# Altium integrated library Actel Fusion.IntLib: 336 symbols (part 19 of 73)
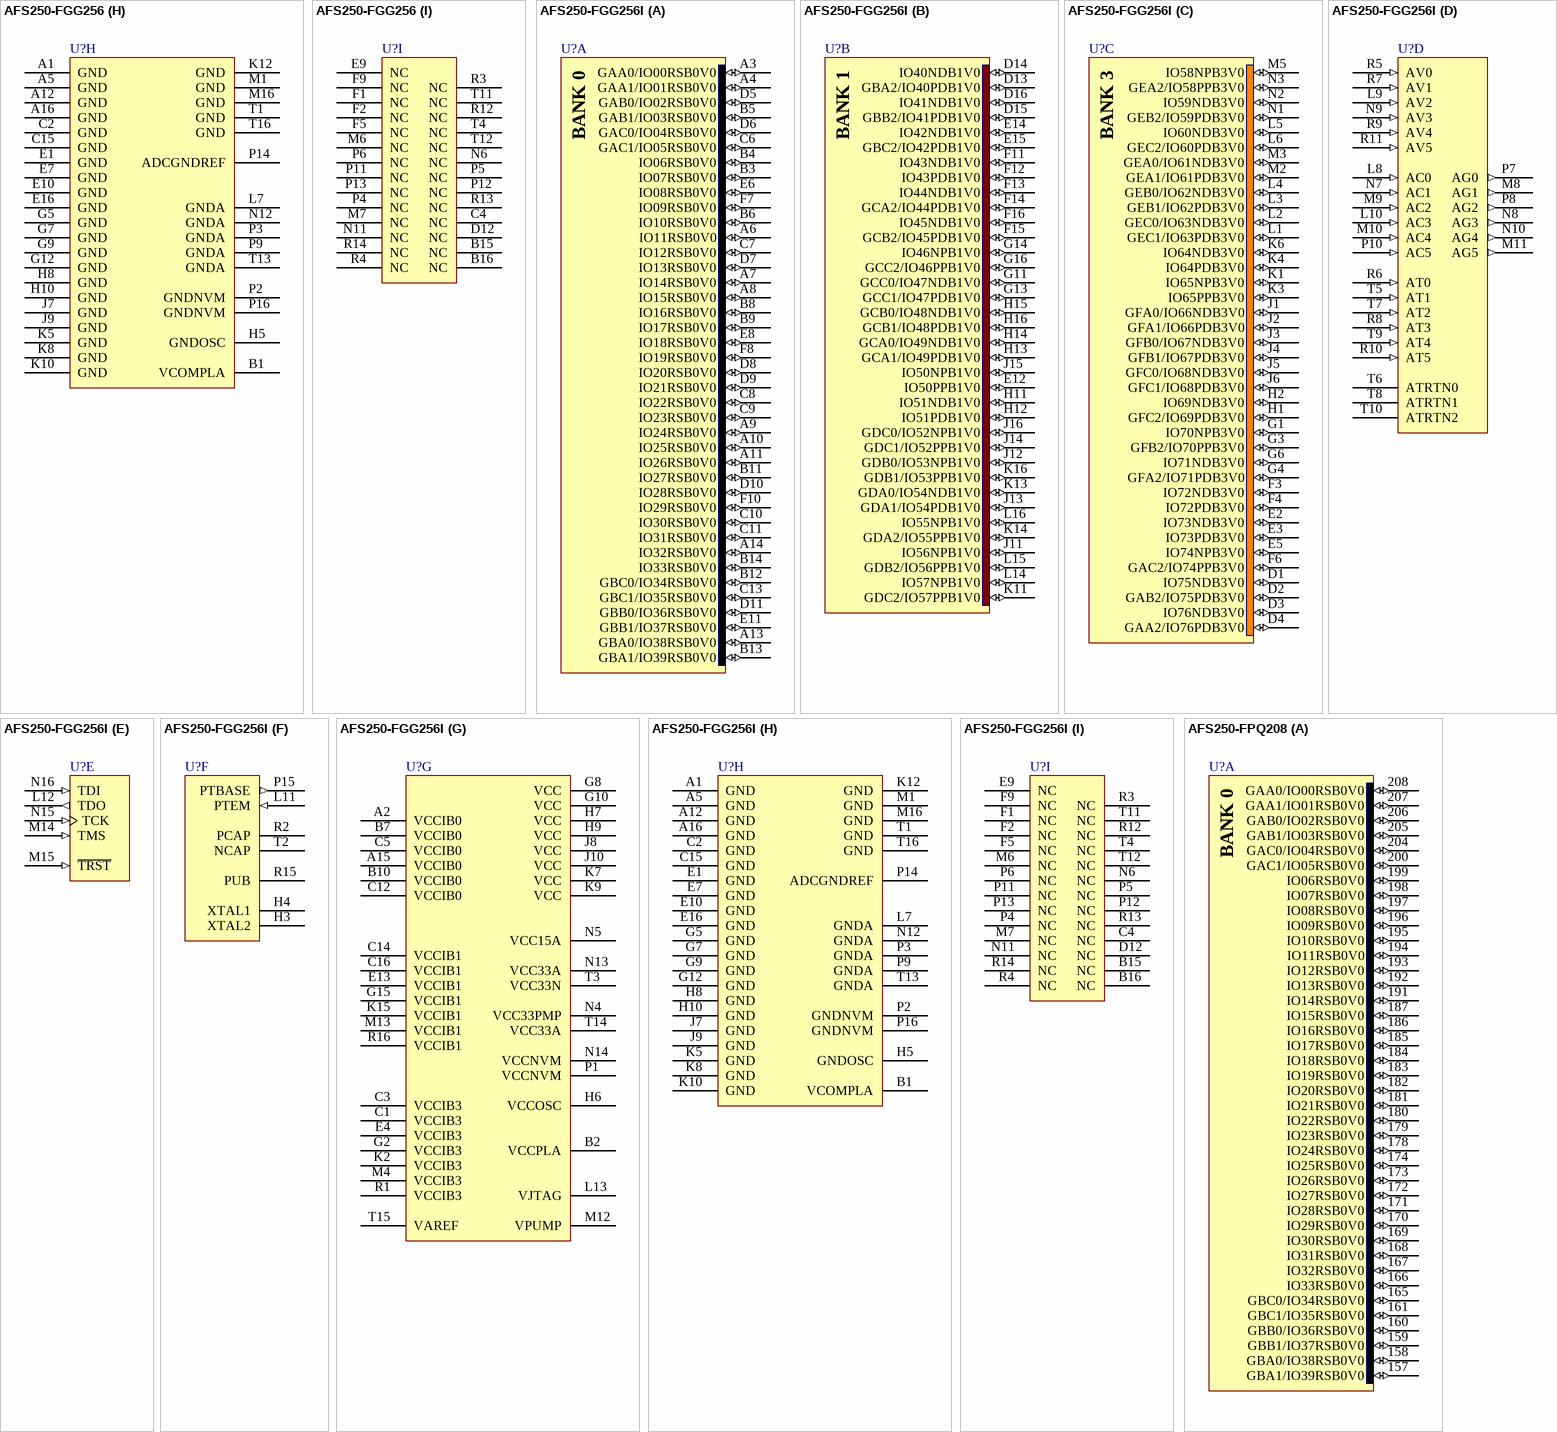
[diagram p302: symbols AFS250-FGG256 to AFS250-FPQ208]

## AFS250-FGG256
designator U?
3.3V Fusion Mixed Signal Flash FPGA, 250,000 System Gates, 256-Pin FBGA, Std. Speed Grade, Commercial Grade, Pb-Free; Published: 30-Jun-2006; LatestRevisionDate: 11-Dec-2009; LatestRevisionNote: Updated to datasheet version 2.0 Jul-2009.; DatasheetVersion: v2.0, Jul-2008; PackageVersion: ver11.2, Nov-2009; PackageReference: FG256; Publisher: Altium Limited; PackageDescription: 256-Ball Fine Pitch Plastic Ball Grid Array 1.00 mm Pitch (FG256); Code_JEDEC: MO-192-DAF-1; ComponentLink1Description: Fusion Datasheet; ComponentLink1URL: http://www.actel.com/documents/Fusion_DS.pdf; ComponentLink2Description: Package Mechanical Drawings; ComponentLink2URL: http://www.actel.com/documents/PckgMechDrwngs.pdf; ComponentLink3Description: Fusion Documents; ComponentLink3URL: http://www.actel.com/products/fusion/docs.aspx; ComponentLink4Description: Actel.com Home; ComponentLink4URL: http://www.actel.com/
footprint FG256 (BGA, 256-Leads, Body 17x17mm, Pitch 1mm)
3D model AFS250-FG256 (256-Ball Fine Pitch Plastic Ball Grid Array 1.00 mm Pitch (FG256))
signal-integrity model AFS250_FG256 (Fusion)
part A pins: A3 GAA0/IO00RSB0V0 (io), A4 GAA1/IO01RSB0V0 (io), A6 IO11RSB0V0 (io), A7 IO14RSB0V0 (io), A8 IO15RSB0V0 (io), A9 IO24RSB0V0 (io), A10 IO25RSB0V0 (io), A11 IO26RSB0V0 (io), A13 GBA0/IO38RSB0V0 (io), A14 IO32RSB0V0 (io), B3 IO07RSB0V0 (io), B4 IO06RSB0V0 (io), B5 GAB1/IO03RSB0V0 (io), B6 IO10RSB0V0 (io), B8 IO16RSB0V0 (io), B9 IO17RSB0V0 (io), B11 IO27RSB0V0 (io), B12 GBC0/IO34RSB0V0 (io), B13 GBA1/IO39RSB0V0 (io), B14 IO33RSB0V0 (io), C6 GAC1/IO05RSB0V0 (io), C7 IO12RSB0V0 (io), C8 IO22RSB0V0 (io), C9 IO23RSB0V0 (io), C10 IO30RSB0V0 (io), C11 IO31RSB0V0 (io), C13 GBC1/IO35RSB0V0 (io), D5 GAB0/IO02RSB0V0 (io), D6 GAC0/IO04RSB0V0 (io), D7 IO13RSB0V0 (io), D8 IO20RSB0V0 (io), D9 IO21RSB0V0 (io), D10 IO28RSB0V0 (io), D11 GBB0/IO36RSB0V0 (io), E6 IO08RSB0V0 (io), E8 IO18RSB0V0 (io), E11 GBB1/IO37RSB0V0 (io), F7 IO09RSB0V0 (io), F8 IO19RSB0V0 (io), F10 IO29RSB0V0 (io)
part B pins: D13 GBA2/IO40PDB1V0 (io), D14 IO40NDB1V0 (io), D15 GBB2/IO41PDB1V0 (io), D16 IO41NDB1V0 (io), E12 IO50PPB1V0 (io), E14 IO42NDB1V0 (io), E15 GBC2/IO42PDB1V0 (io), F11 IO43NDB1V0 (io), F12 IO43PDB1V0 (io), F13 IO44NDB1V0 (io), F14 GCA2/IO44PDB1V0 (io), F15 GCB2/IO45PDB1V0 (io), F16 IO45NDB1V0 (io), G11 GCC0/IO47NDB1V0 (io), G13 GCC1/IO47PDB1V0 (io), G14 IO46NPB1V0 (io), G16 GCC2/IO46PPB1V0 (io), H11 IO51NDB1V0 (io), H12 IO51PDB1V0 (io), H13 GCA1/IO49PDB1V0 (io), H14 GCA0/IO49NDB1V0 (io), H15 GCB0/IO48NDB1V0 (io), H16 GCB1/IO48PDB1V0 (io), J11 IO56NPB1V0 (io), J12 GDB0/IO53NPB1V0 (io), J13 GDA1/IO54PDB1V0 (io), J14 GDC1/IO52PPB1V0 (io), J15 IO50NPB1V0 (io), J16 GDC0/IO52NPB1V0 (io), K11 GDC2/IO57PPB1V0 (io), K13 GDA0/IO54NDB1V0 (io), K14 GDA2/IO55PPB1V0 (io), K16 GDB1/IO53PPB1V0 (io), L14 IO57NPB1V0 (io), L15 GDB2/IO56PPB1V0 (io), L16 IO55NPB1V0 (io)
part C pins: D1 IO75NDB3V0 (io), D2 GAB2/IO75PDB3V0 (io), D3 IO76NDB3V0 (io), D4 GAA2/IO76PDB3V0 (io), E2 IO73NDB3V0 (io), E3 IO73PDB3V0 (io), E5 IO74NPB3V0 (io), F3 IO72NDB3V0 (io), F4 IO72PDB3V0 (io), F6 GAC2/IO74PPB3V0 (io), G1 IO70NPB3V0 (io), G3 GFB2/IO70PPB3V0 (io), G4 GFA2/IO71PDB3V0 (io), G6 IO71NDB3V0 (io), H1 GFC2/IO69PDB3V0 (io), H2 IO69NDB3V0 (io), J1 GFA0/IO66NDB3V0 (io), J2 GFA1/IO66PDB3V0 (io), J3 GFB0/IO67NDB3V0 (io), J4 GFB1/IO67PDB3V0 (io), J5 GFC0/IO68NDB3V0 (io), J6 GFC1/IO68PDB3V0 (io), K1 IO65NPB3V0 (io), K3 IO65PPB3V0 (io), K4 IO64PDB3V0 (io), K6 IO64NDB3V0 (io), L1 GEC1/IO63PDB3V0 (io), L2 GEC0/IO63NDB3V0 (io), L3 GEB1/IO62PDB3V0 (io), L4 GEB0/IO62NDB3V0 (io), L5 IO60NDB3V0 (io), L6 GEC2/IO60PDB3V0 (io), M2 GEA1/IO61PDB3V0 (io), M3 GEA0/IO61NDB3V0 (io), M5 IO58NPB3V0 (io), N1 GEB2/IO59PDB3V0 (io), N2 IO59NDB3V0 (io), N3 GEA2/IO58PPB3V0 (io)
part D pins: L8 AC0 (in) "Analog current pad 0.", L9 AV2 (in) "Analog voltage pad 2.", L10 AC3 (in) "Analog current pad 3.", M8 AG1 (out) "Analog gate driver pad 1.", M9 AC2 (in) "Analog current pad 2.", M10 AC4 (in) "Analog current pad 4.", M11 AG5 (out) "Analog gate driver pad 5.", N7 AC1 (in) "Analog current pad 1.", N8 AG3 (out) "Analog gate driver pad 3.", N9 AV3 (in) "Analog voltage pad 3.", N10 AG4 (out) "Analog gate driver pad 4.", P7 AG0 (out) "Analog gate driver pad 0.", P8 AG2 (out) "Analog gate driver pad 2.", P10 AC5 (in) "Analog current pad 5.", R5 AV0 (in) "Analog voltage pad 0.", R6 AT0 (in) "Analog temperature pad 0.", R7 AV1 (in) "Analog voltage pad 1.", R8 AT3 (in) "Analog temperature pad 3.", R9 AV4 (in) "Analog voltage pad 4.", R10 AT5 (in) "Analog temperature pad 5.", R11 AV5 (in) "Analog voltage pad 5.", T5 AT1 (in) "Analog temperature pad 1.", T6 ATRTN0 "Temperature monitor return 0.", T7 AT2 (in) "Analog temperature pad 2.", T8 ATRTN1 "Temperature monitor return 1.", T9 AT4 (in) "Analog temperature pad 4.", T10 ATRTN2 "Temperature monitor return 2."
part E pins: L12 TDO (out), M14 TMS (in), M15 ~{TRST} (in), N15 TCK (in), N16 TDI (in)
part F pins: H3 XTAL2 "Input to crystal oscillator - If using external RC network or clock input, XTAL1 should be used and XTAL2 left unconnected.", H4 XTAL1 "Input to crystal oscillator - If using external RC network or clock input, XTAL1 should be used and XTAL2 left unconnected.", L11 PTEM (in) "PASS TRANSISTOR EMITTER - The feedback input of the voltage regulator.", P15 PTBASE (out) "PASS TRANSISTOR BASE - The control signal of the voltage regulator.", R2 PCAP "POSITIVE CAPACITOR - where the positive terminal of the charge pump capacitor is connected.", R15 PUB "Power up bar - for the external momentary switch which turns on the 1.5V regulator.", T2 NCAP "NEGATIVE CAPACITOR - where the negative terminal of the charge pump capacitor is connected."
part G pins: A2 VCCIB0 (power), A15 VCCIB0 (power), B2 VCCPLA (power), B7 VCCIB0 (power), B10 VCCIB0 (power), C1 VCCIB3 (power), C3 VCCIB3 (power) "Quiet supply voltage to the input buffers of bank 3.", C5 VCCIB0 (power), C12 VCCIB0 (power), C14 VCCIB1 (power) "Quiet supply voltage to the input buffers of bank 1.", C16 VCCIB1 (power), E4 VCCIB3 (power), E13 VCCIB1 (power), G2 VCCIB3 (power), G8 VCC (power), G10 VCC (power), G15 VCCIB1 (power), H6 VCCOSC (power), H7 VCC (power), H9 VCC (power), J8 VCC (power), J10 VCC (power), K2 VCCIB3 (power), K7 VCC (power), K9 VCC (power), K15 VCCIB1 (power), L13 VJTAG (power), M4 VCCIB3 (power), M12 VPUMP (power), M13 VCCIB1 (power), N4 VCC33PMP (power) "3.3V clean analog power supply input for use by the analog charge pump.", N5 VCC15A (power), N13 VCC33A (power), N14 VCCNVM (power) "1.5V power supply used by the Fusion device's Flash memory block module(s).", P1 VCCNVM (power) "1.5V power supply used by the Fusion device's Flash memory block module(s).", R1 VCCIB3 (power), R16 VCCIB1 (power), T3 VCC33N (power) "-3.3V output from the voltage converter. A 2.2µF capacitor must be connected from this pin to ground.", T14 VCC33A (power) "Analog power pin for the analog power supply low pass filter. An external 1µF capacitor should be connected between this pin and ground.", T15 VAREF (power) "Analog reference voltage to be used by analog to digital converter."
part H pins: A1 GND (power), A5 GND (power), A12 GND (power), A16 GND (power), B1 VCOMPLA (power), C2 GND (power), C15 GND (power), E1 GND (power), E7 GND (power), E10 GND (power), E16 GND (power), G5 GND (power), G7 GND (power), G9 GND (power), G12 GND (power), H5 GNDOSC (power) "Oscillator ground.", H8 GND (power), H10 GND (power), J7 GND (power), J9 GND (power), K5 GND (power), K8 GND (power), K10 GND (power), K12 GND (power), L7 GNDA (power), M1 GND (power), M16 GND (power), N12 GNDA (power), P2 GNDNVM (power) "Flash memory ground.", P3 GNDA (power), P9 GNDA (power), P14 ADCGNDREF (power) "Analog ground reference used by the ADC.", P16 GNDNVM (power) "Flash memory ground.", T1 GND (power), T13 GNDA (power), T16 GND (power)
part I pins: B15 NC, B16 NC, C4 NC, D12 NC, E9 NC, F1 NC, F2 NC, F5 NC, F9 NC, M6 NC, M7 NC, N6 NC, N11 NC, P4 NC, P5 NC, P6 NC, P11 NC, P12 NC, P13 NC, R3 NC, R4 NC, R12 NC, R13 NC, R14 NC, T4 NC, T11 NC, T12 NC
part A text: BANK 0
part B text: BANK 1
part C text: BANK 3

## AFS250-FGG256I
designator U?
3.3V Fusion Mixed Signal Flash FPGA, 250,000 System Gates, 256-Pin FBGA, Std. Speed Grade, Industrial Grade, Pb-Free; Published: 30-Jun-2006; LatestRevisionDate: 11-Dec-2009; LatestRevisionNote: Updated to datasheet version 2.0 Jul-2009.; DatasheetVersion: v2.0, Jul-2008; PackageVersion: ver11.2, Nov-2009; PackageReference: FG256; Publisher: Altium Limited; PackageDescription: 256-Ball Fine Pitch Plastic Ball Grid Array 1.00 mm Pitch (FG256); Code_JEDEC: MO-192-DAF-1; ComponentLink1Description: Fusion Datasheet; ComponentLink1URL: http://www.actel.com/documents/Fusion_DS.pdf; ComponentLink2Description: Package Mechanical Drawings; ComponentLink2URL: http://www.actel.com/documents/PckgMechDrwngs.pdf; ComponentLink3Description: Fusion Documents; ComponentLink3URL: http://www.actel.com/products/fusion/docs.aspx; ComponentLink4Description: Actel.com Home; ComponentLink4URL: http://www.actel.com/
footprint FG256 (BGA, 256-Leads, Body 17x17mm, Pitch 1mm)
3D model AFS250-FG256 (256-Ball Fine Pitch Plastic Ball Grid Array 1.00 mm Pitch (FG256))
signal-integrity model AFS250_FG256 (Fusion)
part A pins: A3 GAA0/IO00RSB0V0 (io), A4 GAA1/IO01RSB0V0 (io), A6 IO11RSB0V0 (io), A7 IO14RSB0V0 (io), A8 IO15RSB0V0 (io), A9 IO24RSB0V0 (io), A10 IO25RSB0V0 (io), A11 IO26RSB0V0 (io), A13 GBA0/IO38RSB0V0 (io), A14 IO32RSB0V0 (io), B3 IO07RSB0V0 (io), B4 IO06RSB0V0 (io), B5 GAB1/IO03RSB0V0 (io), B6 IO10RSB0V0 (io), B8 IO16RSB0V0 (io), B9 IO17RSB0V0 (io), B11 IO27RSB0V0 (io), B12 GBC0/IO34RSB0V0 (io), B13 GBA1/IO39RSB0V0 (io), B14 IO33RSB0V0 (io), C6 GAC1/IO05RSB0V0 (io), C7 IO12RSB0V0 (io), C8 IO22RSB0V0 (io), C9 IO23RSB0V0 (io), C10 IO30RSB0V0 (io), C11 IO31RSB0V0 (io), C13 GBC1/IO35RSB0V0 (io), D5 GAB0/IO02RSB0V0 (io), D6 GAC0/IO04RSB0V0 (io), D7 IO13RSB0V0 (io), D8 IO20RSB0V0 (io), D9 IO21RSB0V0 (io), D10 IO28RSB0V0 (io), D11 GBB0/IO36RSB0V0 (io), E6 IO08RSB0V0 (io), E8 IO18RSB0V0 (io), E11 GBB1/IO37RSB0V0 (io), F7 IO09RSB0V0 (io), F8 IO19RSB0V0 (io), F10 IO29RSB0V0 (io)
part B pins: D13 GBA2/IO40PDB1V0 (io), D14 IO40NDB1V0 (io), D15 GBB2/IO41PDB1V0 (io), D16 IO41NDB1V0 (io), E12 IO50PPB1V0 (io), E14 IO42NDB1V0 (io), E15 GBC2/IO42PDB1V0 (io), F11 IO43NDB1V0 (io), F12 IO43PDB1V0 (io), F13 IO44NDB1V0 (io), F14 GCA2/IO44PDB1V0 (io), F15 GCB2/IO45PDB1V0 (io), F16 IO45NDB1V0 (io), G11 GCC0/IO47NDB1V0 (io), G13 GCC1/IO47PDB1V0 (io), G14 IO46NPB1V0 (io), G16 GCC2/IO46PPB1V0 (io), H11 IO51NDB1V0 (io), H12 IO51PDB1V0 (io), H13 GCA1/IO49PDB1V0 (io), H14 GCA0/IO49NDB1V0 (io), H15 GCB0/IO48NDB1V0 (io), H16 GCB1/IO48PDB1V0 (io), J11 IO56NPB1V0 (io), J12 GDB0/IO53NPB1V0 (io), J13 GDA1/IO54PDB1V0 (io), J14 GDC1/IO52PPB1V0 (io), J15 IO50NPB1V0 (io), J16 GDC0/IO52NPB1V0 (io), K11 GDC2/IO57PPB1V0 (io), K13 GDA0/IO54NDB1V0 (io), K14 GDA2/IO55PPB1V0 (io), K16 GDB1/IO53PPB1V0 (io), L14 IO57NPB1V0 (io), L15 GDB2/IO56PPB1V0 (io), L16 IO55NPB1V0 (io)
part C pins: D1 IO75NDB3V0 (io), D2 GAB2/IO75PDB3V0 (io), D3 IO76NDB3V0 (io), D4 GAA2/IO76PDB3V0 (io), E2 IO73NDB3V0 (io), E3 IO73PDB3V0 (io), E5 IO74NPB3V0 (io), F3 IO72NDB3V0 (io), F4 IO72PDB3V0 (io), F6 GAC2/IO74PPB3V0 (io), G1 IO70NPB3V0 (io), G3 GFB2/IO70PPB3V0 (io), G4 GFA2/IO71PDB3V0 (io), G6 IO71NDB3V0 (io), H1 GFC2/IO69PDB3V0 (io), H2 IO69NDB3V0 (io), J1 GFA0/IO66NDB3V0 (io), J2 GFA1/IO66PDB3V0 (io), J3 GFB0/IO67NDB3V0 (io), J4 GFB1/IO67PDB3V0 (io), J5 GFC0/IO68NDB3V0 (io), J6 GFC1/IO68PDB3V0 (io), K1 IO65NPB3V0 (io), K3 IO65PPB3V0 (io), K4 IO64PDB3V0 (io), K6 IO64NDB3V0 (io), L1 GEC1/IO63PDB3V0 (io), L2 GEC0/IO63NDB3V0 (io), L3 GEB1/IO62PDB3V0 (io), L4 GEB0/IO62NDB3V0 (io), L5 IO60NDB3V0 (io), L6 GEC2/IO60PDB3V0 (io), M2 GEA1/IO61PDB3V0 (io), M3 GEA0/IO61NDB3V0 (io), M5 IO58NPB3V0 (io), N1 GEB2/IO59PDB3V0 (io), N2 IO59NDB3V0 (io), N3 GEA2/IO58PPB3V0 (io)
part D pins: L8 AC0 (in) "Analog current pad 0.", L9 AV2 (in) "Analog voltage pad 2.", L10 AC3 (in) "Analog current pad 3.", M8 AG1 (out) "Analog gate driver pad 1.", M9 AC2 (in) "Analog current pad 2.", M10 AC4 (in) "Analog current pad 4.", M11 AG5 (out) "Analog gate driver pad 5.", N7 AC1 (in) "Analog current pad 1.", N8 AG3 (out) "Analog gate driver pad 3.", N9 AV3 (in) "Analog voltage pad 3.", N10 AG4 (out) "Analog gate driver pad 4.", P7 AG0 (out) "Analog gate driver pad 0.", P8 AG2 (out) "Analog gate driver pad 2.", P10 AC5 (in) "Analog current pad 5.", R5 AV0 (in) "Analog voltage pad 0.", R6 AT0 (in) "Analog temperature pad 0.", R7 AV1 (in) "Analog voltage pad 1.", R8 AT3 (in) "Analog temperature pad 3.", R9 AV4 (in) "Analog voltage pad 4.", R10 AT5 (in) "Analog temperature pad 5.", R11 AV5 (in) "Analog voltage pad 5.", T5 AT1 (in) "Analog temperature pad 1.", T6 ATRTN0 "Temperature monitor return 0.", T7 AT2 (in) "Analog temperature pad 2.", T8 ATRTN1 "Temperature monitor return 1.", T9 AT4 (in) "Analog temperature pad 4.", T10 ATRTN2 "Temperature monitor return 2."
part E pins: L12 TDO (out), M14 TMS (in), M15 ~{TRST} (in), N15 TCK (in), N16 TDI (in)
part F pins: H3 XTAL2 "Input to crystal oscillator - If using external RC network or clock input, XTAL1 should be used and XTAL2 left unconnected.", H4 XTAL1 "Input to crystal oscillator - If using external RC network or clock input, XTAL1 should be used and XTAL2 left unconnected.", L11 PTEM (in) "PASS TRANSISTOR EMITTER - The feedback input of the voltage regulator.", P15 PTBASE (out) "PASS TRANSISTOR BASE - The control signal of the voltage regulator.", R2 PCAP "POSITIVE CAPACITOR - where the positive terminal of the charge pump capacitor is connected.", R15 PUB "Power up bar - for the external momentary switch which turns on the 1.5V regulator.", T2 NCAP "NEGATIVE CAPACITOR - where the negative terminal of the charge pump capacitor is connected."
part G pins: A2 VCCIB0 (power), A15 VCCIB0 (power), B2 VCCPLA (power), B7 VCCIB0 (power), B10 VCCIB0 (power), C1 VCCIB3 (power), C3 VCCIB3 (power) "Quiet supply voltage to the input buffers of bank 3.", C5 VCCIB0 (power), C12 VCCIB0 (power), C14 VCCIB1 (power) "Quiet supply voltage to the input buffers of bank 1.", C16 VCCIB1 (power), E4 VCCIB3 (power), E13 VCCIB1 (power), G2 VCCIB3 (power), G8 VCC (power), G10 VCC (power), G15 VCCIB1 (power), H6 VCCOSC (power), H7 VCC (power), H9 VCC (power), J8 VCC (power), J10 VCC (power), K2 VCCIB3 (power), K7 VCC (power), K9 VCC (power), K15 VCCIB1 (power), L13 VJTAG (power), M4 VCCIB3 (power), M12 VPUMP (power), M13 VCCIB1 (power), N4 VCC33PMP (power) "3.3V clean analog power supply input for use by the analog charge pump.", N5 VCC15A (power), N13 VCC33A (power), N14 VCCNVM (power) "1.5V power supply used by the Fusion device's Flash memory block module(s).", P1 VCCNVM (power) "1.5V power supply used by the Fusion device's Flash memory block module(s).", R1 VCCIB3 (power), R16 VCCIB1 (power), T3 VCC33N (power) "-3.3V output from the voltage converter. A 2.2µF capacitor must be connected from this pin to ground.", T14 VCC33A (power) "Analog power pin for the analog power supply low pass filter. An external 1µF capacitor should be connected between this pin and ground.", T15 VAREF (power) "Analog reference voltage to be used by analog to digital converter."
part H pins: A1 GND (power), A5 GND (power), A12 GND (power), A16 GND (power), B1 VCOMPLA (power), C2 GND (power), C15 GND (power), E1 GND (power), E7 GND (power), E10 GND (power), E16 GND (power), G5 GND (power), G7 GND (power), G9 GND (power), G12 GND (power), H5 GNDOSC (power) "Oscillator ground.", H8 GND (power), H10 GND (power), J7 GND (power), J9 GND (power), K5 GND (power), K8 GND (power), K10 GND (power), K12 GND (power), L7 GNDA (power), M1 GND (power), M16 GND (power), N12 GNDA (power), P2 GNDNVM (power) "Flash memory ground.", P3 GNDA (power), P9 GNDA (power), P14 ADCGNDREF (power) "Analog ground reference used by the ADC.", P16 GNDNVM (power) "Flash memory ground.", T1 GND (power), T13 GNDA (power), T16 GND (power)
part I pins: B15 NC, B16 NC, C4 NC, D12 NC, E9 NC, F1 NC, F2 NC, F5 NC, F9 NC, M6 NC, M7 NC, N6 NC, N11 NC, P4 NC, P5 NC, P6 NC, P11 NC, P12 NC, P13 NC, R3 NC, R4 NC, R12 NC, R13 NC, R14 NC, T4 NC, T11 NC, T12 NC
part A text: BANK 0
part B text: BANK 1
part C text: BANK 3

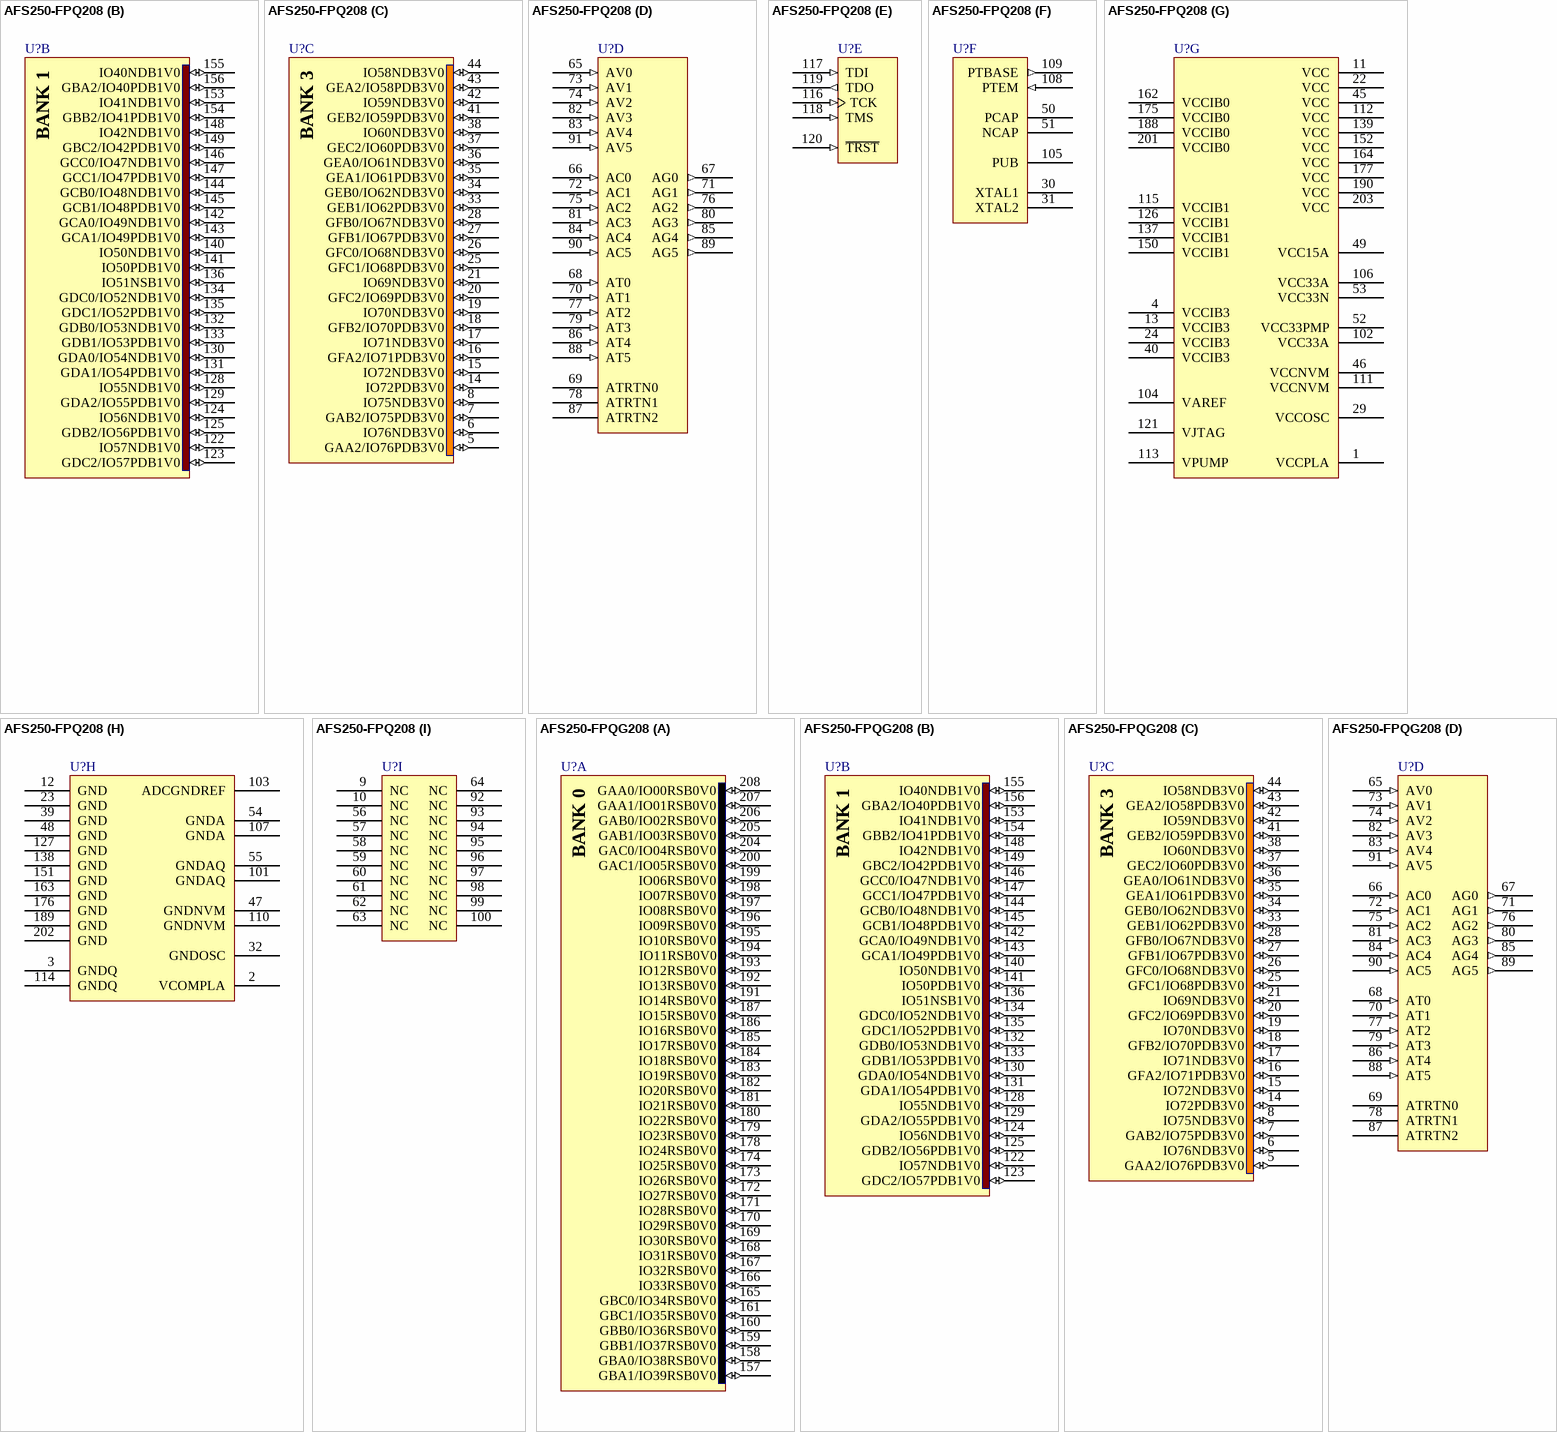
[diagram p45: symbols AFS250-FPQ208 to AFS250-FPQG208]

## AFS250-FPQ208
designator U?
3.3V Fusion Mixed Signal Flash FPGA, 250,000 System Gates, 208-Pin PQFP, F Speed Grade, Commercial Grade; ComponentAvailability: F speed grade removed in ver2.0, Jul-2009 datasheet.; Published: 30-Jun-2006; LatestRevisionDate: 14-Dec-2007; LatestRevisionNote: Pin 102 renamed VCC33A.; DatasheetVersion: v1.7, Oct-2008; PackageVersion: ver11.2, Nov-2009; PackageReference: PQ208; Publisher: Altium Limited; PackageDescription: 208-Pin Plastic Quad Flat Pack (PQ208); Code_JEDEC: MS-029-FA-1; ComponentLink1Description: Fusion Datasheet; ComponentLink1URL: http://www.actel.com/documents/Fusion_DS.pdf; ComponentLink2Description: Package Mechanical Drawings; ComponentLink2URL: http://www.actel.com/documents/PckgMechDrwngs.pdf; ComponentLink3Description: Fusion Documents; ComponentLink3URL: http://www.actel.com/products/fusion/docs.aspx; ComponentLink4Description: Actel.com Home; ComponentLink4URL: http://www.actel.com/
footprint PQ208_N (Shrink QFP, 208-Leads, Body 28x28mm, Pitch 0.5mm, IPC Medium Density)
footprint PQ208_L (Shrink QFP, 208-Leads, Body 28x28mm, Pitch 0.5mm, IPC High Density)
footprint PQ208_M (Shrink QFP, 208-Leads, Body 28x28mm, Pitch 0.5mm, IPC Low Density)
3D model AFS250-PQ208 (208-Pin Plastic Quad Flat Pack (PQ208))
signal-integrity model AFS250_PQ208 (Fusion)
part A pins: 157 GBA1/IO39RSB0V0 (io), 158 GBA0/IO38RSB0V0 (io), 159 GBB1/IO37RSB0V0 (io), 160 GBB0/IO36RSB0V0 (io), 161 GBC1/IO35RSB0V0 (io), 165 GBC0/IO34RSB0V0 (io), 166 IO33RSB0V0 (io), 167 IO32RSB0V0 (io), 168 IO31RSB0V0 (io), 169 IO30RSB0V0 (io), 170 IO29RSB0V0 (io), 171 IO28RSB0V0 (io), 172 IO27RSB0V0 (io), 173 IO26RSB0V0 (io), 174 IO25RSB0V0 (io), 178 IO24RSB0V0 (io), 179 IO23RSB0V0 (io), 180 IO22RSB0V0 (io), 181 IO21RSB0V0 (io), 182 IO20RSB0V0 (io), 183 IO19RSB0V0 (io), 184 IO18RSB0V0 (io), 185 IO17RSB0V0 (io), 186 IO16RSB0V0 (io), 187 IO15RSB0V0 (io), 191 IO14RSB0V0 (io), 192 IO13RSB0V0 (io), 193 IO12RSB0V0 (io), 194 IO11RSB0V0 (io), 195 IO10RSB0V0 (io), 196 IO09RSB0V0 (io), 197 IO08RSB0V0 (io), 198 IO07RSB0V0 (io), 199 IO06RSB0V0 (io), 200 GAC1/IO05RSB0V0 (io), 204 GAC0/IO04RSB0V0 (io), 205 GAB1/IO03RSB0V0 (io), 206 GAB0/IO02RSB0V0 (io), 207 GAA1/IO01RSB0V0 (io), 208 GAA0/IO00RSB0V0 (io)
part B pins: 122 IO57NDB1V0 (io), 123 GDC2/IO57PDB1V0 (io), 124 IO56NDB1V0 (io), 125 GDB2/IO56PDB1V0 (io), 128 IO55NDB1V0 (io), 129 GDA2/IO55PDB1V0 (io), 130 GDA0/IO54NDB1V0 (io), 131 GDA1/IO54PDB1V0 (io), 132 GDB0/IO53NDB1V0 (io), 133 GDB1/IO53PDB1V0 (io), 134 GDC0/IO52NDB1V0 (io), 135 GDC1/IO52PDB1V0 (io), 136 IO51NSB1V0 (io), 140 IO50NDB1V0 (io), 141 IO50PDB1V0 (io), 142 GCA0/IO49NDB1V0 (io), 143 GCA1/IO49PDB1V0 (io), 144 GCB0/IO48NDB1V0 (io), 145 GCB1/IO48PDB1V0 (io), 146 GCC0/IO47NDB1V0 (io), 147 GCC1/IO47PDB1V0 (io), 148 IO42NDB1V0 (io), 149 GBC2/IO42PDB1V0 (io), 153 IO41NDB1V0 (io), 154 GBB2/IO41PDB1V0 (io), 155 IO40NDB1V0 (io), 156 GBA2/IO40PDB1V0 (io)
part C pins: 5 GAA2/IO76PDB3V0 (io), 6 IO76NDB3V0 (io), 7 GAB2/IO75PDB3V0 (io), 8 IO75NDB3V0 (io), 14 IO72PDB3V0 (io), 15 IO72NDB3V0 (io), 16 GFA2/IO71PDB3V0 (io), 17 IO71NDB3V0 (io), 18 GFB2/IO70PDB3V0 (io), 19 IO70NDB3V0 (io), 20 GFC2/IO69PDB3V0 (io), 21 IO69NDB3V0 (io), 25 GFC1/IO68PDB3V0 (io), 26 GFC0/IO68NDB3V0 (io), 27 GFB1/IO67PDB3V0 (io), 28 GFB0/IO67NDB3V0 (io), 33 GEB1/IO62PDB3V0 (io), 34 GEB0/IO62NDB3V0 (io), 35 GEA1/IO61PDB3V0 (io), 36 GEA0/IO61NDB3V0 (io), 37 GEC2/IO60PDB3V0 (io), 38 IO60NDB3V0 (io), 41 GEB2/IO59PDB3V0 (io), 42 IO59NDB3V0 (io), 43 GEA2/IO58PDB3V0 (io), 44 IO58NDB3V0 (io)
part D pins: 65 AV0 (in) "Analog voltage pad 0.", 66 AC0 (in) "Analog current pad 0.", 67 AG0 (out) "Analog gate driver pad 0.", 68 AT0 (in) "Analog temperature pad 0.", 69 ATRTN0 "Temperature monitor return 0.", 70 AT1 (in) "Analog temperature pad 1.", 71 AG1 (out) "Analog gate driver pad 1.", 72 AC1 (in) "Analog current pad 1.", 73 AV1 (in) "Analog voltage pad 1.", 74 AV2 (in) "Analog voltage pad 2.", 75 AC2 (in) "Analog current pad 2.", 76 AG2 (out) "Analog gate driver pad 2.", 77 AT2 (in) "Analog temperature pad 2.", 78 ATRTN1 "Temperature monitor return 1.", 79 AT3 (in) "Analog temperature pad 3.", 80 AG3 (out) "Analog gate driver pad 3.", 81 AC3 (in) "Analog current pad 3.", 82 AV3 (in) "Analog voltage pad 3.", 83 AV4 (in) "Analog voltage pad 4.", 84 AC4 (in) "Analog current pad 4.", 85 AG4 (out) "Analog gate driver pad 4.", 86 AT4 (in) "Analog temperature pad 4.", 87 ATRTN2 "Temperature monitor return 2.", 88 AT5 (in) "Analog temperature pad 5.", 89 AG5 (out) "Analog gate driver pad 5.", 90 AC5 (in) "Analog current pad 5.", 91 AV5 (in) "Analog voltage pad 5."
part E pins: 116 TCK (in), 117 TDI (in), 118 TMS (in), 119 TDO (out), 120 ~{TRST} (in)
part F pins: 30 XTAL1 "Input to crystal oscillator - If using external RC network or clock input, XTAL1 should be used and XTAL2 left unconnected.", 31 XTAL2 "Input to crystal oscillator - If using external RC network or clock input, XTAL1 should be used and XTAL2 left unconnected.", 50 PCAP "POSITIVE CAPACITOR - where the positive terminal of the charge pump capacitor is connected.", 51 NCAP "NEGATIVE CAPACITOR - where the negative terminal of the charge pump capacitor is connected.", 105 PUB "Power up bar - for the external momentary switch which turns on the 1.5V regulator.", 108 PTEM (in) "PASS TRANSISTOR EMITTER - The feedback input of the voltage regulator.", 109 PTBASE (out) "PASS TRANSISTOR BASE - The control signal of the voltage regulator."
part G pins: 1 VCCPLA (power), 4 VCCIB3 (power) "Quiet supply voltage to the input buffers of bank 3.", 11 VCC (power), 13 VCCIB3 (power), 22 VCC (power), 24 VCCIB3 (power), 29 VCCOSC (power), 40 VCCIB3 (power), 45 VCC (power), 46 VCCNVM (power) "1.5V power supply used by the Fusion device's Flash memory block module(s).", 49 VCC15A (power), 52 VCC33PMP (power) "3.3V clean analog power supply input for use by the analog charge pump.", 53 VCC33N (power) "-3.3V output from the voltage converter. A 2.2µF capacitor must be connected from this pin to ground.", 102 VCC33A (power) "Analog power pin for the analog power supply low pass filter. An external 1µF capacitor should be connected between this pin and ground.", 104 VAREF (power) "Analog reference voltage to be used by analog to digital converter.", 106 VCC33A (power), 111 VCCNVM (power) "1.5V power supply used by the Fusion device's Flash memory block module(s).", 112 VCC (power), 113 VPUMP (power), 115 VCCIB1 (power) "Quiet supply voltage to the input buffers of bank 1.", 121 VJTAG (power), 126 VCCIB1 (power), 137 VCCIB1 (power), 139 VCC (power), 150 VCCIB1 (power), 152 VCC (power), 162 VCCIB0 (power), 164 VCC (power), 175 VCCIB0 (power), 177 VCC (power), 188 VCCIB0 (power), 190 VCC (power), 201 VCCIB0 (power), 203 VCC (power)
part H pins: 2 VCOMPLA (power), 3 GNDQ (power), 12 GND (power), 23 GND (power), 32 GNDOSC (power) "Oscillator ground.", 39 GND (power), 47 GNDNVM (power) "Flash memory ground.", 48 GND (power), 54 GNDA (power), 55 GNDAQ (power), 101 GNDAQ (power), 103 ADCGNDREF (power) "Analog ground reference used by the ADC.", 107 GNDA (power), 110 GNDNVM (power) "Flash memory ground.", 114 GNDQ (power), 127 GND (power), 138 GND (power), 151 GND (power), 163 GND (power), 176 GND (power), 189 GND (power), 202 GND (power)
part I pins: 9 NC, 10 NC, 56 NC, 57 NC, 58 NC, 59 NC, 60 NC, 61 NC, 62 NC, 63 NC, 64 NC, 92 NC, 93 NC, 94 NC, 95 NC, 96 NC, 97 NC, 98 NC, 99 NC, 100 NC
part A text: BANK 0
part B text: BANK 1
part C text: BANK 3

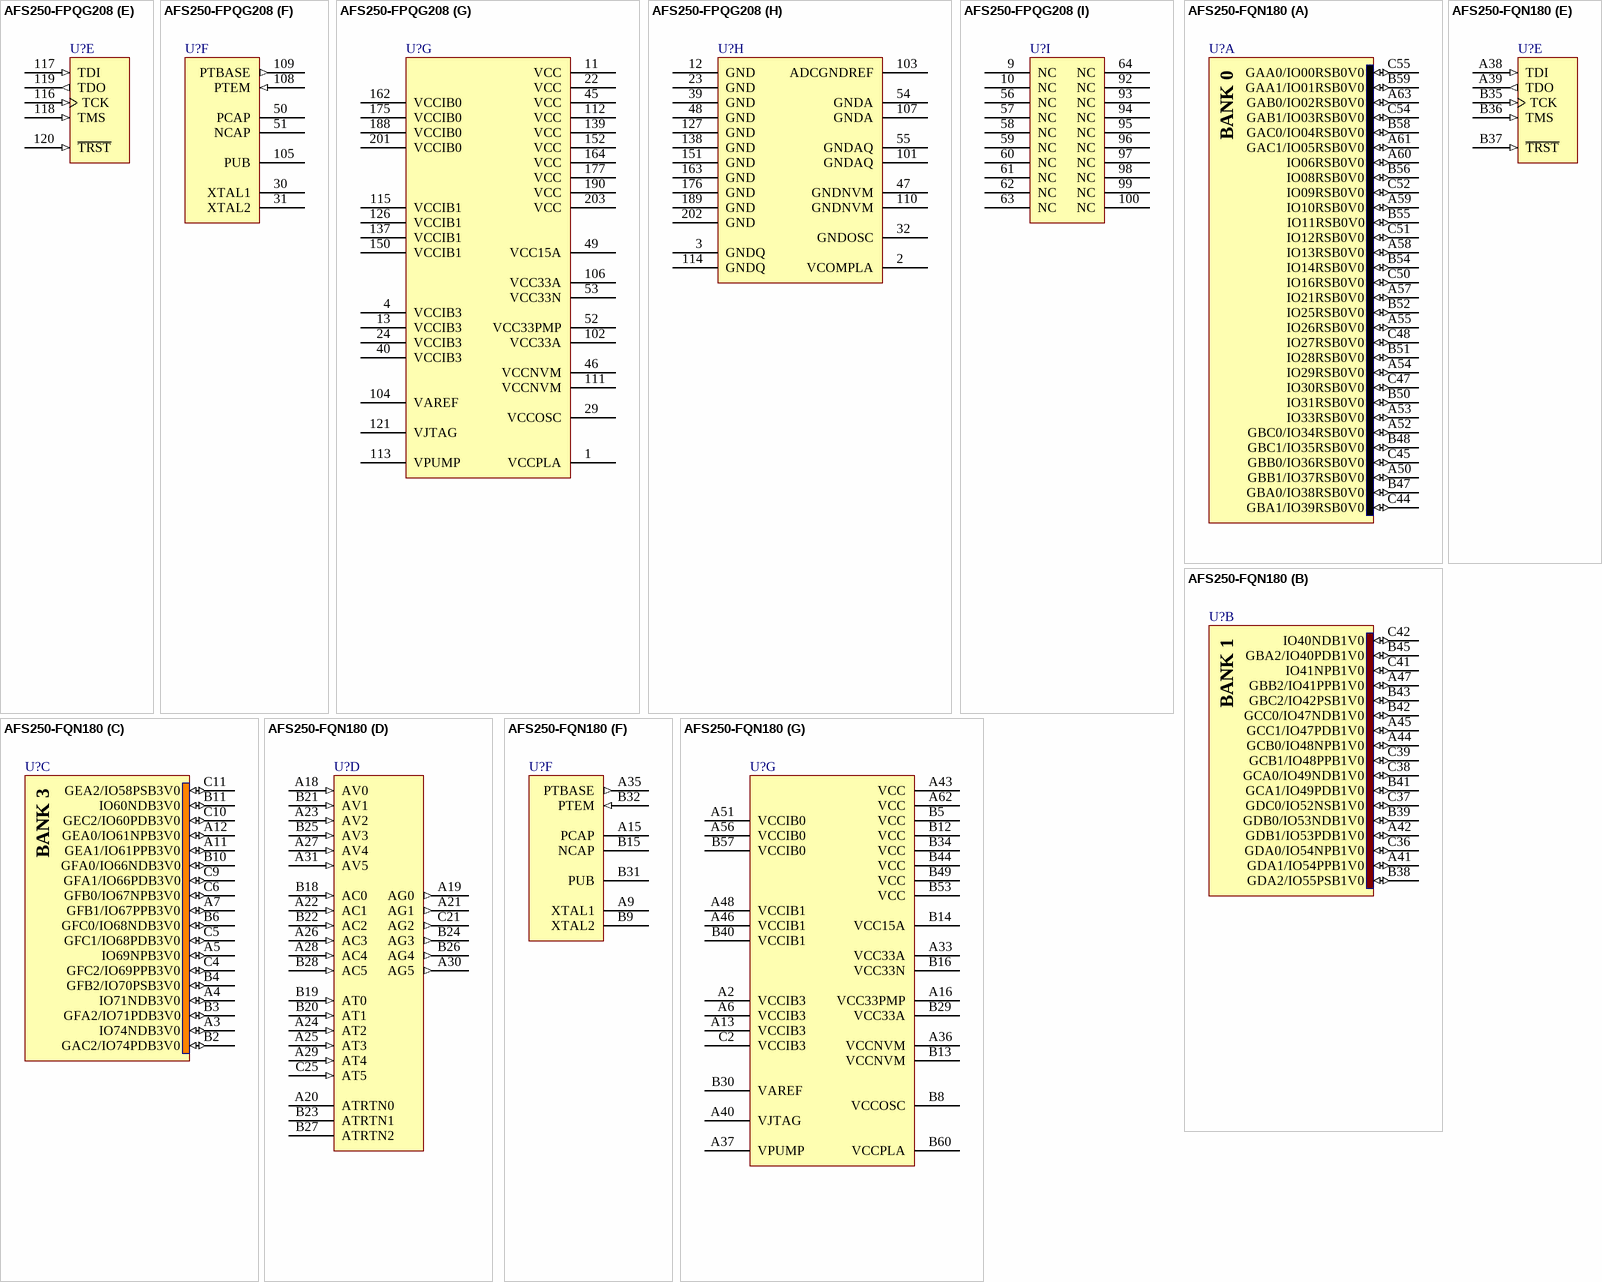
[diagram p46: symbols AFS250-FPQG208 to AFS250-FQN180]

## AFS250-FPQG208
designator U?
3.3V Fusion Mixed Signal Flash FPGA, 250,000 System Gates, 208-Pin PQFP, F Speed Grade, Commercial Grade, Pb-Free; ComponentAvailability: F speed grade removed in ver2.0, Jul-2009 datasheet.; Published: 30-Jun-2006; LatestRevisionDate: 14-Dec-2007; LatestRevisionNote: Pin 102 renamed VCC33A.; DatasheetVersion: v1.7, Oct-2008; PackageVersion: ver11.2, Nov-2009; PackageReference: PQ208; Publisher: Altium Limited; PackageDescription: 208-Pin Plastic Quad Flat Pack (PQ208); Code_JEDEC: MS-029-FA-1; ComponentLink1Description: Fusion Datasheet; ComponentLink1URL: http://www.actel.com/documents/Fusion_DS.pdf; ComponentLink2Description: Package Mechanical Drawings; ComponentLink2URL: http://www.actel.com/documents/PckgMechDrwngs.pdf; ComponentLink3Description: Fusion Documents; ComponentLink3URL: http://www.actel.com/products/fusion/docs.aspx; ComponentLink4Description: Actel.com Home; ComponentLink4URL: http://www.actel.com/
footprint PQ208_N (Shrink QFP, 208-Leads, Body 28x28mm, Pitch 0.5mm, IPC Medium Density)
footprint PQ208_L (Shrink QFP, 208-Leads, Body 28x28mm, Pitch 0.5mm, IPC High Density)
footprint PQ208_M (Shrink QFP, 208-Leads, Body 28x28mm, Pitch 0.5mm, IPC Low Density)
3D model AFS250-PQ208 (208-Pin Plastic Quad Flat Pack (PQ208))
signal-integrity model AFS250_PQ208 (Fusion)
part A pins: 157 GBA1/IO39RSB0V0 (io), 158 GBA0/IO38RSB0V0 (io), 159 GBB1/IO37RSB0V0 (io), 160 GBB0/IO36RSB0V0 (io), 161 GBC1/IO35RSB0V0 (io), 165 GBC0/IO34RSB0V0 (io), 166 IO33RSB0V0 (io), 167 IO32RSB0V0 (io), 168 IO31RSB0V0 (io), 169 IO30RSB0V0 (io), 170 IO29RSB0V0 (io), 171 IO28RSB0V0 (io), 172 IO27RSB0V0 (io), 173 IO26RSB0V0 (io), 174 IO25RSB0V0 (io), 178 IO24RSB0V0 (io), 179 IO23RSB0V0 (io), 180 IO22RSB0V0 (io), 181 IO21RSB0V0 (io), 182 IO20RSB0V0 (io), 183 IO19RSB0V0 (io), 184 IO18RSB0V0 (io), 185 IO17RSB0V0 (io), 186 IO16RSB0V0 (io), 187 IO15RSB0V0 (io), 191 IO14RSB0V0 (io), 192 IO13RSB0V0 (io), 193 IO12RSB0V0 (io), 194 IO11RSB0V0 (io), 195 IO10RSB0V0 (io), 196 IO09RSB0V0 (io), 197 IO08RSB0V0 (io), 198 IO07RSB0V0 (io), 199 IO06RSB0V0 (io), 200 GAC1/IO05RSB0V0 (io), 204 GAC0/IO04RSB0V0 (io), 205 GAB1/IO03RSB0V0 (io), 206 GAB0/IO02RSB0V0 (io), 207 GAA1/IO01RSB0V0 (io), 208 GAA0/IO00RSB0V0 (io)
part B pins: 122 IO57NDB1V0 (io), 123 GDC2/IO57PDB1V0 (io), 124 IO56NDB1V0 (io), 125 GDB2/IO56PDB1V0 (io), 128 IO55NDB1V0 (io), 129 GDA2/IO55PDB1V0 (io), 130 GDA0/IO54NDB1V0 (io), 131 GDA1/IO54PDB1V0 (io), 132 GDB0/IO53NDB1V0 (io), 133 GDB1/IO53PDB1V0 (io), 134 GDC0/IO52NDB1V0 (io), 135 GDC1/IO52PDB1V0 (io), 136 IO51NSB1V0 (io), 140 IO50NDB1V0 (io), 141 IO50PDB1V0 (io), 142 GCA0/IO49NDB1V0 (io), 143 GCA1/IO49PDB1V0 (io), 144 GCB0/IO48NDB1V0 (io), 145 GCB1/IO48PDB1V0 (io), 146 GCC0/IO47NDB1V0 (io), 147 GCC1/IO47PDB1V0 (io), 148 IO42NDB1V0 (io), 149 GBC2/IO42PDB1V0 (io), 153 IO41NDB1V0 (io), 154 GBB2/IO41PDB1V0 (io), 155 IO40NDB1V0 (io), 156 GBA2/IO40PDB1V0 (io)
part C pins: 5 GAA2/IO76PDB3V0 (io), 6 IO76NDB3V0 (io), 7 GAB2/IO75PDB3V0 (io), 8 IO75NDB3V0 (io), 14 IO72PDB3V0 (io), 15 IO72NDB3V0 (io), 16 GFA2/IO71PDB3V0 (io), 17 IO71NDB3V0 (io), 18 GFB2/IO70PDB3V0 (io), 19 IO70NDB3V0 (io), 20 GFC2/IO69PDB3V0 (io), 21 IO69NDB3V0 (io), 25 GFC1/IO68PDB3V0 (io), 26 GFC0/IO68NDB3V0 (io), 27 GFB1/IO67PDB3V0 (io), 28 GFB0/IO67NDB3V0 (io), 33 GEB1/IO62PDB3V0 (io), 34 GEB0/IO62NDB3V0 (io), 35 GEA1/IO61PDB3V0 (io), 36 GEA0/IO61NDB3V0 (io), 37 GEC2/IO60PDB3V0 (io), 38 IO60NDB3V0 (io), 41 GEB2/IO59PDB3V0 (io), 42 IO59NDB3V0 (io), 43 GEA2/IO58PDB3V0 (io), 44 IO58NDB3V0 (io)
part D pins: 65 AV0 (in) "Analog voltage pad 0.", 66 AC0 (in) "Analog current pad 0.", 67 AG0 (out) "Analog gate driver pad 0.", 68 AT0 (in) "Analog temperature pad 0.", 69 ATRTN0 "Temperature monitor return 0.", 70 AT1 (in) "Analog temperature pad 1.", 71 AG1 (out) "Analog gate driver pad 1.", 72 AC1 (in) "Analog current pad 1.", 73 AV1 (in) "Analog voltage pad 1.", 74 AV2 (in) "Analog voltage pad 2.", 75 AC2 (in) "Analog current pad 2.", 76 AG2 (out) "Analog gate driver pad 2.", 77 AT2 (in) "Analog temperature pad 2.", 78 ATRTN1 "Temperature monitor return 1.", 79 AT3 (in) "Analog temperature pad 3.", 80 AG3 (out) "Analog gate driver pad 3.", 81 AC3 (in) "Analog current pad 3.", 82 AV3 (in) "Analog voltage pad 3.", 83 AV4 (in) "Analog voltage pad 4.", 84 AC4 (in) "Analog current pad 4.", 85 AG4 (out) "Analog gate driver pad 4.", 86 AT4 (in) "Analog temperature pad 4.", 87 ATRTN2 "Temperature monitor return 2.", 88 AT5 (in) "Analog temperature pad 5.", 89 AG5 (out) "Analog gate driver pad 5.", 90 AC5 (in) "Analog current pad 5.", 91 AV5 (in) "Analog voltage pad 5."
part E pins: 116 TCK (in), 117 TDI (in), 118 TMS (in), 119 TDO (out), 120 ~{TRST} (in)
part F pins: 30 XTAL1 "Input to crystal oscillator - If using external RC network or clock input, XTAL1 should be used and XTAL2 left unconnected.", 31 XTAL2 "Input to crystal oscillator - If using external RC network or clock input, XTAL1 should be used and XTAL2 left unconnected.", 50 PCAP "POSITIVE CAPACITOR - where the positive terminal of the charge pump capacitor is connected.", 51 NCAP "NEGATIVE CAPACITOR - where the negative terminal of the charge pump capacitor is connected.", 105 PUB "Power up bar - for the external momentary switch which turns on the 1.5V regulator.", 108 PTEM (in) "PASS TRANSISTOR EMITTER - The feedback input of the voltage regulator.", 109 PTBASE (out) "PASS TRANSISTOR BASE - The control signal of the voltage regulator."
part G pins: 1 VCCPLA (power), 4 VCCIB3 (power) "Quiet supply voltage to the input buffers of bank 3.", 11 VCC (power), 13 VCCIB3 (power), 22 VCC (power), 24 VCCIB3 (power), 29 VCCOSC (power), 40 VCCIB3 (power), 45 VCC (power), 46 VCCNVM (power) "1.5V power supply used by the Fusion device's Flash memory block module(s).", 49 VCC15A (power), 52 VCC33PMP (power) "3.3V clean analog power supply input for use by the analog charge pump.", 53 VCC33N (power) "-3.3V output from the voltage converter. A 2.2µF capacitor must be connected from this pin to ground.", 102 VCC33A (power) "Analog power pin for the analog power supply low pass filter. An external 1µF capacitor should be connected between this pin and ground.", 104 VAREF (power) "Analog reference voltage to be used by analog to digital converter.", 106 VCC33A (power), 111 VCCNVM (power) "1.5V power supply used by the Fusion device's Flash memory block module(s).", 112 VCC (power), 113 VPUMP (power), 115 VCCIB1 (power) "Quiet supply voltage to the input buffers of bank 1.", 121 VJTAG (power), 126 VCCIB1 (power), 137 VCCIB1 (power), 139 VCC (power), 150 VCCIB1 (power), 152 VCC (power), 162 VCCIB0 (power), 164 VCC (power), 175 VCCIB0 (power), 177 VCC (power), 188 VCCIB0 (power), 190 VCC (power), 201 VCCIB0 (power), 203 VCC (power)
part H pins: 2 VCOMPLA (power), 3 GNDQ (power), 12 GND (power), 23 GND (power), 32 GNDOSC (power) "Oscillator ground.", 39 GND (power), 47 GNDNVM (power) "Flash memory ground.", 48 GND (power), 54 GNDA (power), 55 GNDAQ (power), 101 GNDAQ (power), 103 ADCGNDREF (power) "Analog ground reference used by the ADC.", 107 GNDA (power), 110 GNDNVM (power) "Flash memory ground.", 114 GNDQ (power), 127 GND (power), 138 GND (power), 151 GND (power), 163 GND (power), 176 GND (power), 189 GND (power), 202 GND (power)
part I pins: 9 NC, 10 NC, 56 NC, 57 NC, 58 NC, 59 NC, 60 NC, 61 NC, 62 NC, 63 NC, 64 NC, 92 NC, 93 NC, 94 NC, 95 NC, 96 NC, 97 NC, 98 NC, 99 NC, 100 NC
part A text: BANK 0
part B text: BANK 1
part C text: BANK 3

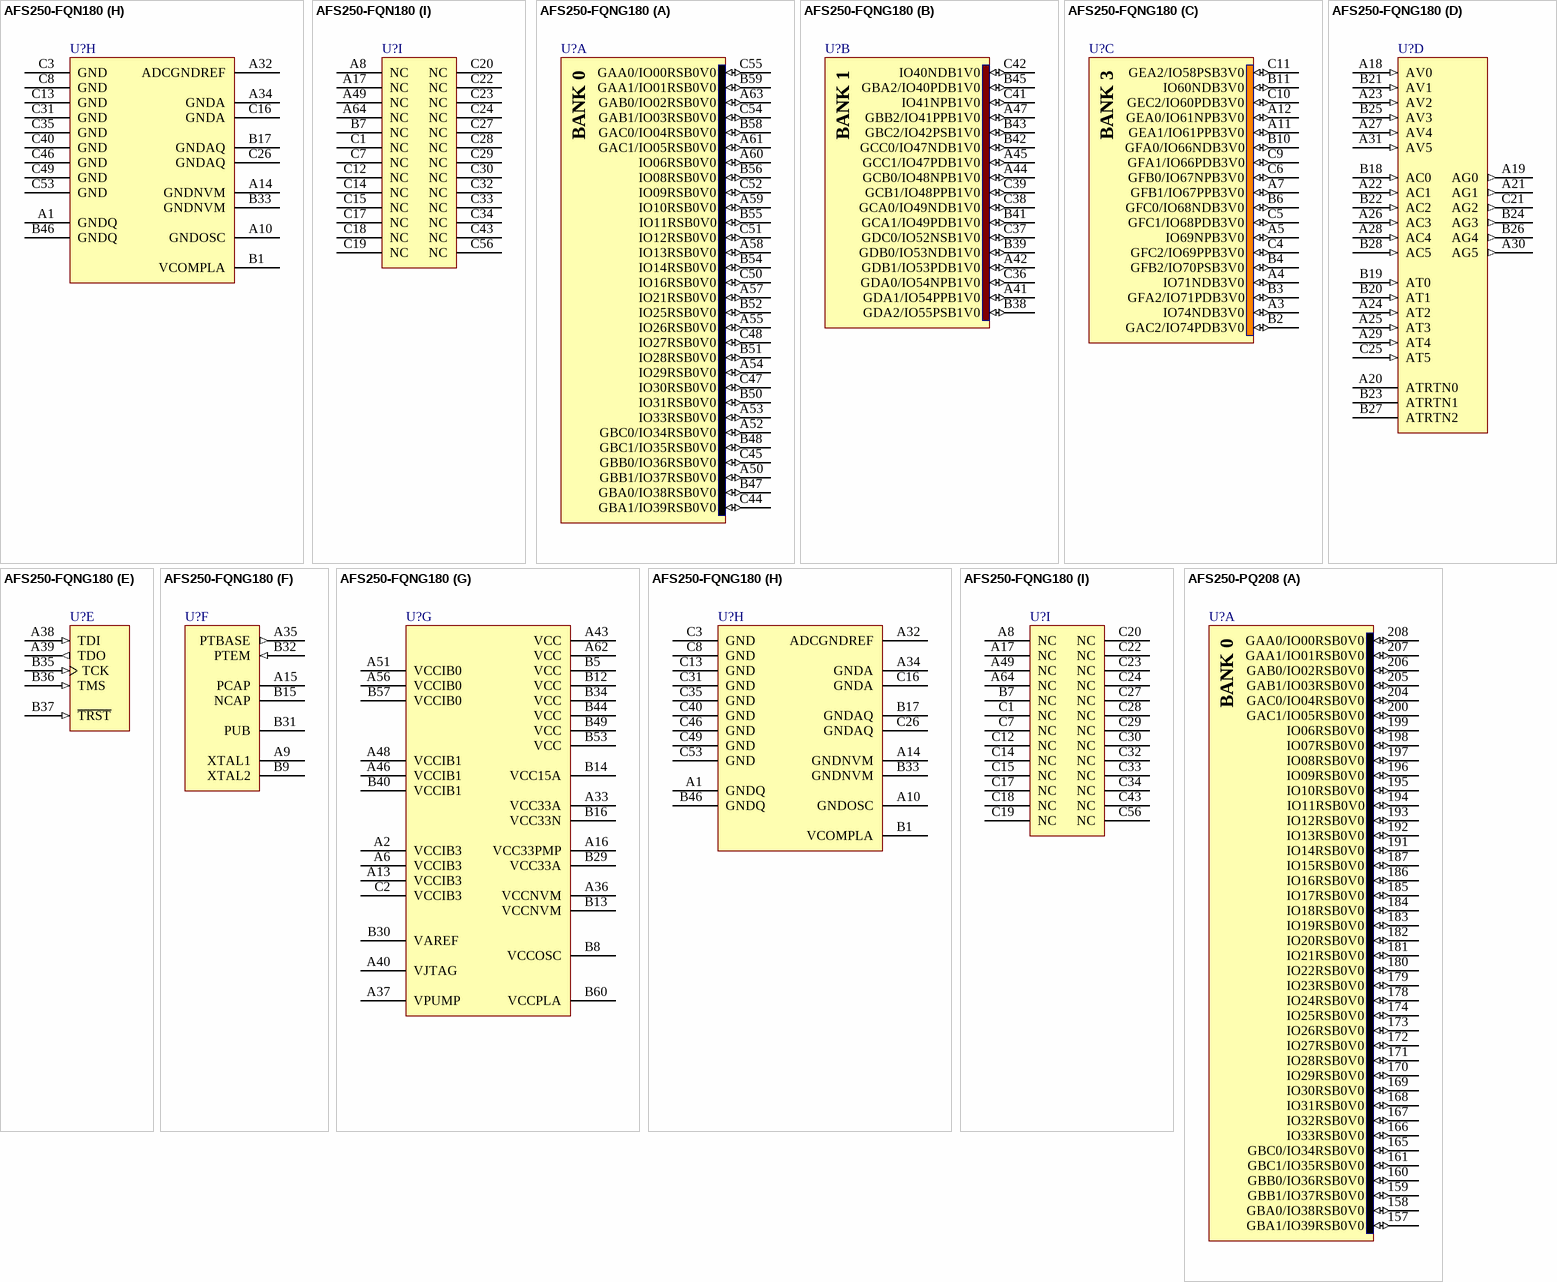
[diagram p47: symbols AFS250-FQN180 to AFS250-PQ208]

## AFS250-FQN180
designator U?
3.3V Fusion Mixed Signal Flash FPGA, 250,000 System Gates, 180-Pin Quad Flat No Lead, F Speed Grade, Commercial Grade; ComponentAvailability: F speed grade removed in ver2.0, Jul-2009 datasheet.; Published: 30-Jun-2006; LatestRevisionDate: 14-Dec-2007; LatestRevisionNote: Pin B29 renamed VCC33A.; DatasheetVersion: v1.7, Oct-2008; PackageVersion: ver11.2, Nov-2009; PackageReference: QN180; Publisher: Altium Limited; PackageDescription: 180-Pin Quad Flat Pack No-Leads (QN180); ComponentLink1Description: Fusion Datasheet; ComponentLink1URL: http://www.actel.com/documents/Fusion_DS.pdf; ComponentLink2Description: Package Mechanical Drawings; ComponentLink2URL: http://www.actel.com/documents/PckgMechDrwngs.pdf; ComponentLink3Description: Fusion Documents; ComponentLink3URL: http://www.actel.com/products/fusion/docs.aspx; ComponentLink4Description: Actel.com Home; ComponentLink4URL: http://www.actel.com/
footprint QN180 (QFN, 180-Leads, Body 10x10mm, Pitch 0.5mm)
3D model AFS250-QN180 (180-Pin Quad Flat Pack No-Leads (QN180))
signal-integrity model AFS250_QN180 (Fusion)
part A pins: A50 GBB1/IO37RSB0V0 (io), A52 GBC0/IO34RSB0V0 (io), A53 IO33RSB0V0 (io), A54 IO29RSB0V0 (io), A55 IO26RSB0V0 (io), A57 IO21RSB0V0 (io), A58 IO13RSB0V0 (io), A59 IO10RSB0V0 (io), A60 IO06RSB0V0 (io), A61 GAC1/IO05RSB0V0 (io), A63 GAB0/IO02RSB0V0 (io), B47 GBA0/IO38RSB0V0 (io), B48 GBC1/IO35RSB0V0 (io), B50 IO31RSB0V0 (io), B51 IO28RSB0V0 (io), B52 IO25RSB0V0 (io), B54 IO14RSB0V0 (io), B55 IO11RSB0V0 (io), B56 IO08RSB0V0 (io), B58 GAC0/IO04RSB0V0 (io), B59 GAA1/IO01RSB0V0 (io), C44 GBA1/IO39RSB0V0 (io), C45 GBB0/IO36RSB0V0 (io), C47 IO30RSB0V0 (io), C48 IO27RSB0V0 (io), C50 IO16RSB0V0 (io), C51 IO12RSB0V0 (io), C52 IO09RSB0V0 (io), C54 GAB1/IO03RSB0V0 (io), C55 GAA0/IO00RSB0V0 (io)
part B pins: A41 GDA1/IO54PPB1V0 (io), A42 GDB1/IO53PDB1V0 (io), A44 GCB0/IO48NPB1V0 (io), A45 GCC1/IO47PDB1V0 (io), A47 GBB2/IO41PPB1V0 (io), B38 GDA2/IO55PSB1V0 (io), B39 GDB0/IO53NDB1V0 (io), B41 GCA1/IO49PDB1V0 (io), B42 GCC0/IO47NDB1V0 (io), B43 GBC2/IO42PSB1V0 (io), B45 GBA2/IO40PDB1V0 (io), C36 GDA0/IO54NPB1V0 (io), C37 GDC0/IO52NSB1V0 (io), C38 GCA0/IO49NDB1V0 (io), C39 GCB1/IO48PPB1V0 (io), C41 IO41NPB1V0 (io), C42 IO40NDB1V0 (io)
part C pins: A3 IO74NDB3V0 (io), A4 IO71NDB3V0 (io), A5 IO69NPB3V0 (io), A7 GFB1/IO67PPB3V0 (io), A11 GEA1/IO61PPB3V0 (io), A12 GEA0/IO61NPB3V0 (io), B2 GAC2/IO74PDB3V0 (io), B3 GFA2/IO71PDB3V0 (io), B4 GFB2/IO70PSB3V0 (io), B6 GFC0/IO68NDB3V0 (io), B10 GFA0/IO66NDB3V0 (io), B11 IO60NDB3V0 (io), C4 GFC2/IO69PPB3V0 (io), C5 GFC1/IO68PDB3V0 (io), C6 GFB0/IO67NPB3V0 (io), C9 GFA1/IO66PDB3V0 (io), C10 GEC2/IO60PDB3V0 (io), C11 GEA2/IO58PSB3V0 (io)
part D pins: A18 AV0 (in) "Analog voltage pad 0.", A19 AG0 (out) "Analog gate driver pad 0.", A20 ATRTN0 "Temperature monitor return 0.", A21 AG1 (out) "Analog gate driver pad 1.", A22 AC1 (in) "Analog current pad 1.", A23 AV2 (in) "Analog voltage pad 2.", A24 AT2 (in) "Analog temperature pad 2.", A25 AT3 (in) "Analog temperature pad 3.", A26 AC3 (in) "Analog current pad 3.", A27 AV4 (in) "Analog voltage pad 4.", A28 AC4 (in) "Analog current pad 4.", A29 AT4 (in) "Analog temperature pad 4.", A30 AG5 (out) "Analog gate driver pad 5.", A31 AV5 (in) "Analog voltage pad 5.", B18 AC0 (in) "Analog current pad 0.", B19 AT0 (in) "Analog temperature pad 0.", B20 AT1 (in) "Analog temperature pad 1.", B21 AV1 (in) "Analog voltage pad 1.", B22 AC2 (in) "Analog current pad 2.", B23 ATRTN1 "Temperature monitor return 1.", B24 AG3 (out) "Analog gate driver pad 3.", B25 AV3 (in) "Analog voltage pad 3.", B26 AG4 (out) "Analog gate driver pad 4.", B27 ATRTN2 "Temperature monitor return 2.", B28 AC5 (in) "Analog current pad 5.", C21 AG2 (out) "Analog gate driver pad 2.", C25 AT5 (in) "Analog temperature pad 5."
part E pins: A38 TDI (in), A39 TDO (out), B35 TCK (in), B36 TMS (in), B37 ~{TRST} (in)
part F pins: A9 XTAL1 "Input to crystal oscillator - If using external RC network or clock input, XTAL1 should be used and XTAL2 left unconnected.", A15 PCAP "POSITIVE CAPACITOR - where the positive terminal of the charge pump capacitor is connected.", A35 PTBASE (out) "PASS TRANSISTOR BASE - The control signal of the voltage regulator.", B9 XTAL2 "Input to crystal oscillator - If using external RC network or clock input, XTAL1 should be used and XTAL2 left unconnected.", B15 NCAP "NEGATIVE CAPACITOR - where the negative terminal of the charge pump capacitor is connected.", B31 PUB "Power up bar - for the external momentary switch which turns on the 1.5V regulator.", B32 PTEM (in) "PASS TRANSISTOR EMITTER - The feedback input of the voltage regulator."
part G pins: A2 VCCIB3 (power) "Quiet supply voltage to the input buffers of bank 3.", A6 VCCIB3 (power), A13 VCCIB3 (power), A16 VCC33PMP (power) "3.3V clean analog power supply input for use by the analog charge pump.", A33 VCC33A (power), A36 VCCNVM (power) "1.5V power supply used by the Fusion device's Flash memory block module(s).", A37 VPUMP (power), A40 VJTAG (power), A43 VCC (power), A46 VCCIB1 (power), A48 VCCIB1 (power) "Quiet supply voltage to the input buffers of bank 1.", A51 VCCIB0 (power), A56 VCCIB0 (power), A62 VCC (power), B5 VCC (power), B8 VCCOSC (power), B12 VCC (power), B13 VCCNVM (power) "1.5V power supply used by the Fusion device's Flash memory block module(s).", B14 VCC15A (power), B16 VCC33N (power) "-3.3V output from the voltage converter. A 2.2µF capacitor must be connected from this pin to ground.", B29 VCC33A (power) "Analog power pin for the analog power supply low pass filter. An external 1µF capacitor should be connected between this pin and ground.", B30 VAREF (power) "Analog reference voltage to be used by analog to digital converter.", B34 VCC (power), B40 VCCIB1 (power), B44 VCC (power), B49 VCC (power), B53 VCC (power), B57 VCCIB0 (power), B60 VCCPLA (power), C2 VCCIB3 (power)
part H pins: A1 GNDQ (power), A10 GNDOSC (power) "Oscillator ground.", A14 GNDNVM (power) "Flash memory ground.", A32 ADCGNDREF (power) "Analog ground reference used by the ADC.", A34 GNDA (power), B1 VCOMPLA (power), B17 GNDAQ (power), B33 GNDNVM (power) "Flash memory ground.", B46 GNDQ (power), C3 GND (power), C8 GND (power), C13 GND (power), C16 GNDA (power), C26 GNDAQ (power), C31 GND (power), C35 GND (power), C40 GND (power), C46 GND (power), C49 GND (power), C53 GND (power)
part I pins: A8 NC, A17 NC, A49 NC, A64 NC, B7 NC, C1 NC, C7 NC, C12 NC, C14 NC, C15 NC, C17 NC, C18 NC, C19 NC, C20 NC, C22 NC, C23 NC, C24 NC, C27 NC, C28 NC, C29 NC, C30 NC, C32 NC, C33 NC, C34 NC, C43 NC, C56 NC
part A text: BANK 0
part B text: BANK 1
part C text: BANK 3

## AFS250-FQNG180
designator U?
3.3V Fusion Mixed Signal Flash FPGA, 250,000 System Gates, 180-Pin Quad Flat No Lead, F Speed Grade, Commercial Grade, Pb-Free; ComponentAvailability: F speed grade removed in ver2.0, Jul-2009 datasheet.; Published: 30-Jun-2006; LatestRevisionDate: 14-Dec-2007; LatestRevisionNote: Pin B29 renamed VCC33A.; DatasheetVersion: v1.7, Oct-2008; PackageVersion: ver11.2, Nov-2009; PackageReference: QN180; Publisher: Altium Limited; PackageDescription: 180-Pin Quad Flat Pack No-Leads (QN180); ComponentLink1Description: Fusion Datasheet; ComponentLink1URL: http://www.actel.com/documents/Fusion_DS.pdf; ComponentLink2Description: Package Mechanical Drawings; ComponentLink2URL: http://www.actel.com/documents/PckgMechDrwngs.pdf; ComponentLink3Description: Fusion Documents; ComponentLink3URL: http://www.actel.com/products/fusion/docs.aspx; ComponentLink4Description: Actel.com Home; ComponentLink4URL: http://www.actel.com/
footprint QN180 (QFN, 180-Leads, Body 10x10mm, Pitch 0.5mm)
3D model AFS250-QN180 (180-Pin Quad Flat Pack No-Leads (QN180))
signal-integrity model AFS250_QN180 (Fusion)
part A pins: A50 GBB1/IO37RSB0V0 (io), A52 GBC0/IO34RSB0V0 (io), A53 IO33RSB0V0 (io), A54 IO29RSB0V0 (io), A55 IO26RSB0V0 (io), A57 IO21RSB0V0 (io), A58 IO13RSB0V0 (io), A59 IO10RSB0V0 (io), A60 IO06RSB0V0 (io), A61 GAC1/IO05RSB0V0 (io), A63 GAB0/IO02RSB0V0 (io), B47 GBA0/IO38RSB0V0 (io), B48 GBC1/IO35RSB0V0 (io), B50 IO31RSB0V0 (io), B51 IO28RSB0V0 (io), B52 IO25RSB0V0 (io), B54 IO14RSB0V0 (io), B55 IO11RSB0V0 (io), B56 IO08RSB0V0 (io), B58 GAC0/IO04RSB0V0 (io), B59 GAA1/IO01RSB0V0 (io), C44 GBA1/IO39RSB0V0 (io), C45 GBB0/IO36RSB0V0 (io), C47 IO30RSB0V0 (io), C48 IO27RSB0V0 (io), C50 IO16RSB0V0 (io), C51 IO12RSB0V0 (io), C52 IO09RSB0V0 (io), C54 GAB1/IO03RSB0V0 (io), C55 GAA0/IO00RSB0V0 (io)
part B pins: A41 GDA1/IO54PPB1V0 (io), A42 GDB1/IO53PDB1V0 (io), A44 GCB0/IO48NPB1V0 (io), A45 GCC1/IO47PDB1V0 (io), A47 GBB2/IO41PPB1V0 (io), B38 GDA2/IO55PSB1V0 (io), B39 GDB0/IO53NDB1V0 (io), B41 GCA1/IO49PDB1V0 (io), B42 GCC0/IO47NDB1V0 (io), B43 GBC2/IO42PSB1V0 (io), B45 GBA2/IO40PDB1V0 (io), C36 GDA0/IO54NPB1V0 (io), C37 GDC0/IO52NSB1V0 (io), C38 GCA0/IO49NDB1V0 (io), C39 GCB1/IO48PPB1V0 (io), C41 IO41NPB1V0 (io), C42 IO40NDB1V0 (io)
part C pins: A3 IO74NDB3V0 (io), A4 IO71NDB3V0 (io), A5 IO69NPB3V0 (io), A7 GFB1/IO67PPB3V0 (io), A11 GEA1/IO61PPB3V0 (io), A12 GEA0/IO61NPB3V0 (io), B2 GAC2/IO74PDB3V0 (io), B3 GFA2/IO71PDB3V0 (io), B4 GFB2/IO70PSB3V0 (io), B6 GFC0/IO68NDB3V0 (io), B10 GFA0/IO66NDB3V0 (io), B11 IO60NDB3V0 (io), C4 GFC2/IO69PPB3V0 (io), C5 GFC1/IO68PDB3V0 (io), C6 GFB0/IO67NPB3V0 (io), C9 GFA1/IO66PDB3V0 (io), C10 GEC2/IO60PDB3V0 (io), C11 GEA2/IO58PSB3V0 (io)
part D pins: A18 AV0 (in) "Analog voltage pad 0.", A19 AG0 (out) "Analog gate driver pad 0.", A20 ATRTN0 "Temperature monitor return 0.", A21 AG1 (out) "Analog gate driver pad 1.", A22 AC1 (in) "Analog current pad 1.", A23 AV2 (in) "Analog voltage pad 2.", A24 AT2 (in) "Analog temperature pad 2.", A25 AT3 (in) "Analog temperature pad 3.", A26 AC3 (in) "Analog current pad 3.", A27 AV4 (in) "Analog voltage pad 4.", A28 AC4 (in) "Analog current pad 4.", A29 AT4 (in) "Analog temperature pad 4.", A30 AG5 (out) "Analog gate driver pad 5.", A31 AV5 (in) "Analog voltage pad 5.", B18 AC0 (in) "Analog current pad 0.", B19 AT0 (in) "Analog temperature pad 0.", B20 AT1 (in) "Analog temperature pad 1.", B21 AV1 (in) "Analog voltage pad 1.", B22 AC2 (in) "Analog current pad 2.", B23 ATRTN1 "Temperature monitor return 1.", B24 AG3 (out) "Analog gate driver pad 3.", B25 AV3 (in) "Analog voltage pad 3.", B26 AG4 (out) "Analog gate driver pad 4.", B27 ATRTN2 "Temperature monitor return 2.", B28 AC5 (in) "Analog current pad 5.", C21 AG2 (out) "Analog gate driver pad 2.", C25 AT5 (in) "Analog temperature pad 5."
part E pins: A38 TDI (in), A39 TDO (out), B35 TCK (in), B36 TMS (in), B37 ~{TRST} (in)
part F pins: A9 XTAL1 "Input to crystal oscillator - If using external RC network or clock input, XTAL1 should be used and XTAL2 left unconnected.", A15 PCAP "POSITIVE CAPACITOR - where the positive terminal of the charge pump capacitor is connected.", A35 PTBASE (out) "PASS TRANSISTOR BASE - The control signal of the voltage regulator.", B9 XTAL2 "Input to crystal oscillator - If using external RC network or clock input, XTAL1 should be used and XTAL2 left unconnected.", B15 NCAP "NEGATIVE CAPACITOR - where the negative terminal of the charge pump capacitor is connected.", B31 PUB "Power up bar - for the external momentary switch which turns on the 1.5V regulator.", B32 PTEM (in) "PASS TRANSISTOR EMITTER - The feedback input of the voltage regulator."
part G pins: A2 VCCIB3 (power) "Quiet supply voltage to the input buffers of bank 3.", A6 VCCIB3 (power), A13 VCCIB3 (power), A16 VCC33PMP (power) "3.3V clean analog power supply input for use by the analog charge pump.", A33 VCC33A (power), A36 VCCNVM (power) "1.5V power supply used by the Fusion device's Flash memory block module(s).", A37 VPUMP (power), A40 VJTAG (power), A43 VCC (power), A46 VCCIB1 (power), A48 VCCIB1 (power) "Quiet supply voltage to the input buffers of bank 1.", A51 VCCIB0 (power), A56 VCCIB0 (power), A62 VCC (power), B5 VCC (power), B8 VCCOSC (power), B12 VCC (power), B13 VCCNVM (power) "1.5V power supply used by the Fusion device's Flash memory block module(s).", B14 VCC15A (power), B16 VCC33N (power) "-3.3V output from the voltage converter. A 2.2µF capacitor must be connected from this pin to ground.", B29 VCC33A (power) "Analog power pin for the analog power supply low pass filter. An external 1µF capacitor should be connected between this pin and ground.", B30 VAREF (power) "Analog reference voltage to be used by analog to digital converter.", B34 VCC (power), B40 VCCIB1 (power), B44 VCC (power), B49 VCC (power), B53 VCC (power), B57 VCCIB0 (power), B60 VCCPLA (power), C2 VCCIB3 (power)
part H pins: A1 GNDQ (power), A10 GNDOSC (power) "Oscillator ground.", A14 GNDNVM (power) "Flash memory ground.", A32 ADCGNDREF (power) "Analog ground reference used by the ADC.", A34 GNDA (power), B1 VCOMPLA (power), B17 GNDAQ (power), B33 GNDNVM (power) "Flash memory ground.", B46 GNDQ (power), C3 GND (power), C8 GND (power), C13 GND (power), C16 GNDA (power), C26 GNDAQ (power), C31 GND (power), C35 GND (power), C40 GND (power), C46 GND (power), C49 GND (power), C53 GND (power)
part I pins: A8 NC, A17 NC, A49 NC, A64 NC, B7 NC, C1 NC, C7 NC, C12 NC, C14 NC, C15 NC, C17 NC, C18 NC, C19 NC, C20 NC, C22 NC, C23 NC, C24 NC, C27 NC, C28 NC, C29 NC, C30 NC, C32 NC, C33 NC, C34 NC, C43 NC, C56 NC
part A text: BANK 0
part B text: BANK 1
part C text: BANK 3

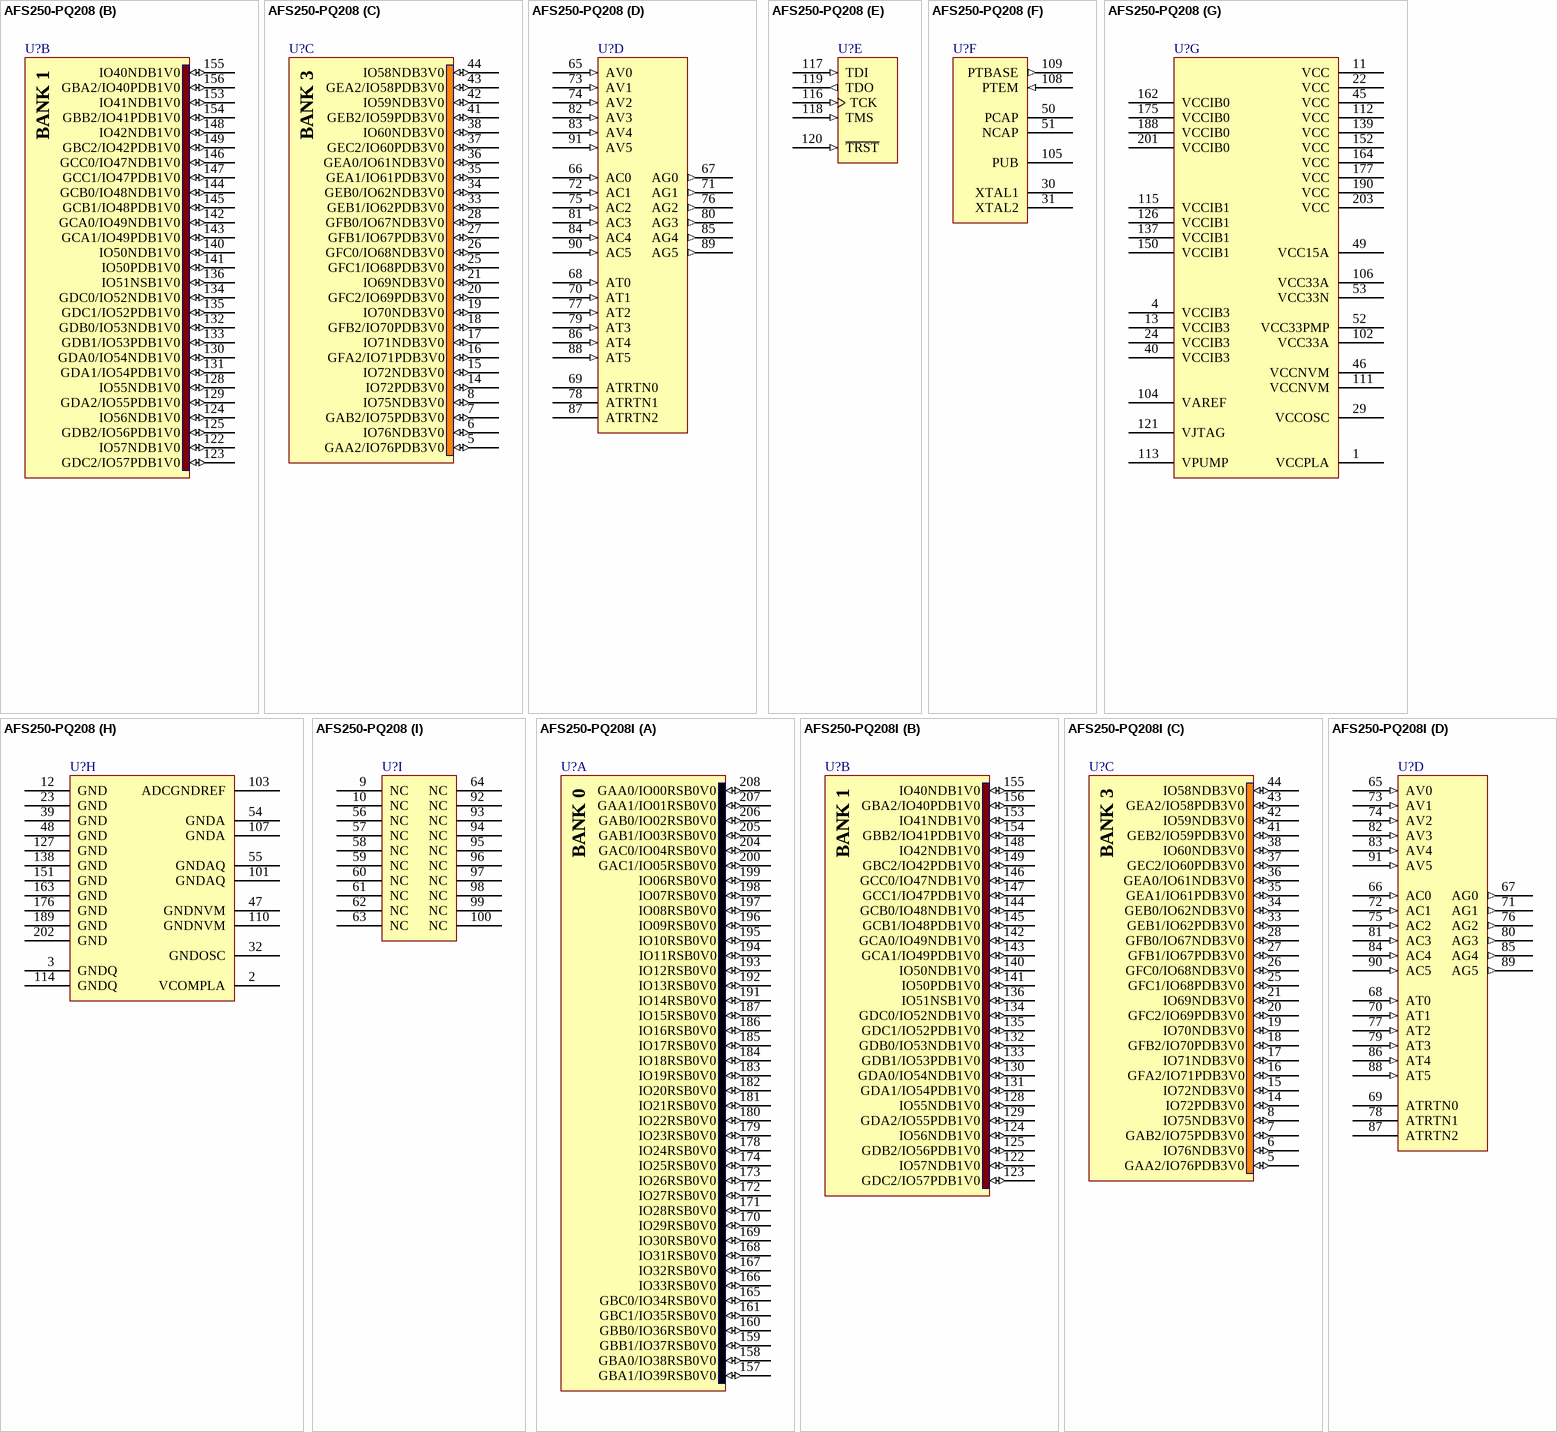
[diagram p48: symbols AFS250-PQ208 to AFS250-PQ208I]